# Altium integrated library BB Converter Data Acquisition System.IntLib: 55 symbols (part 2 of 2)
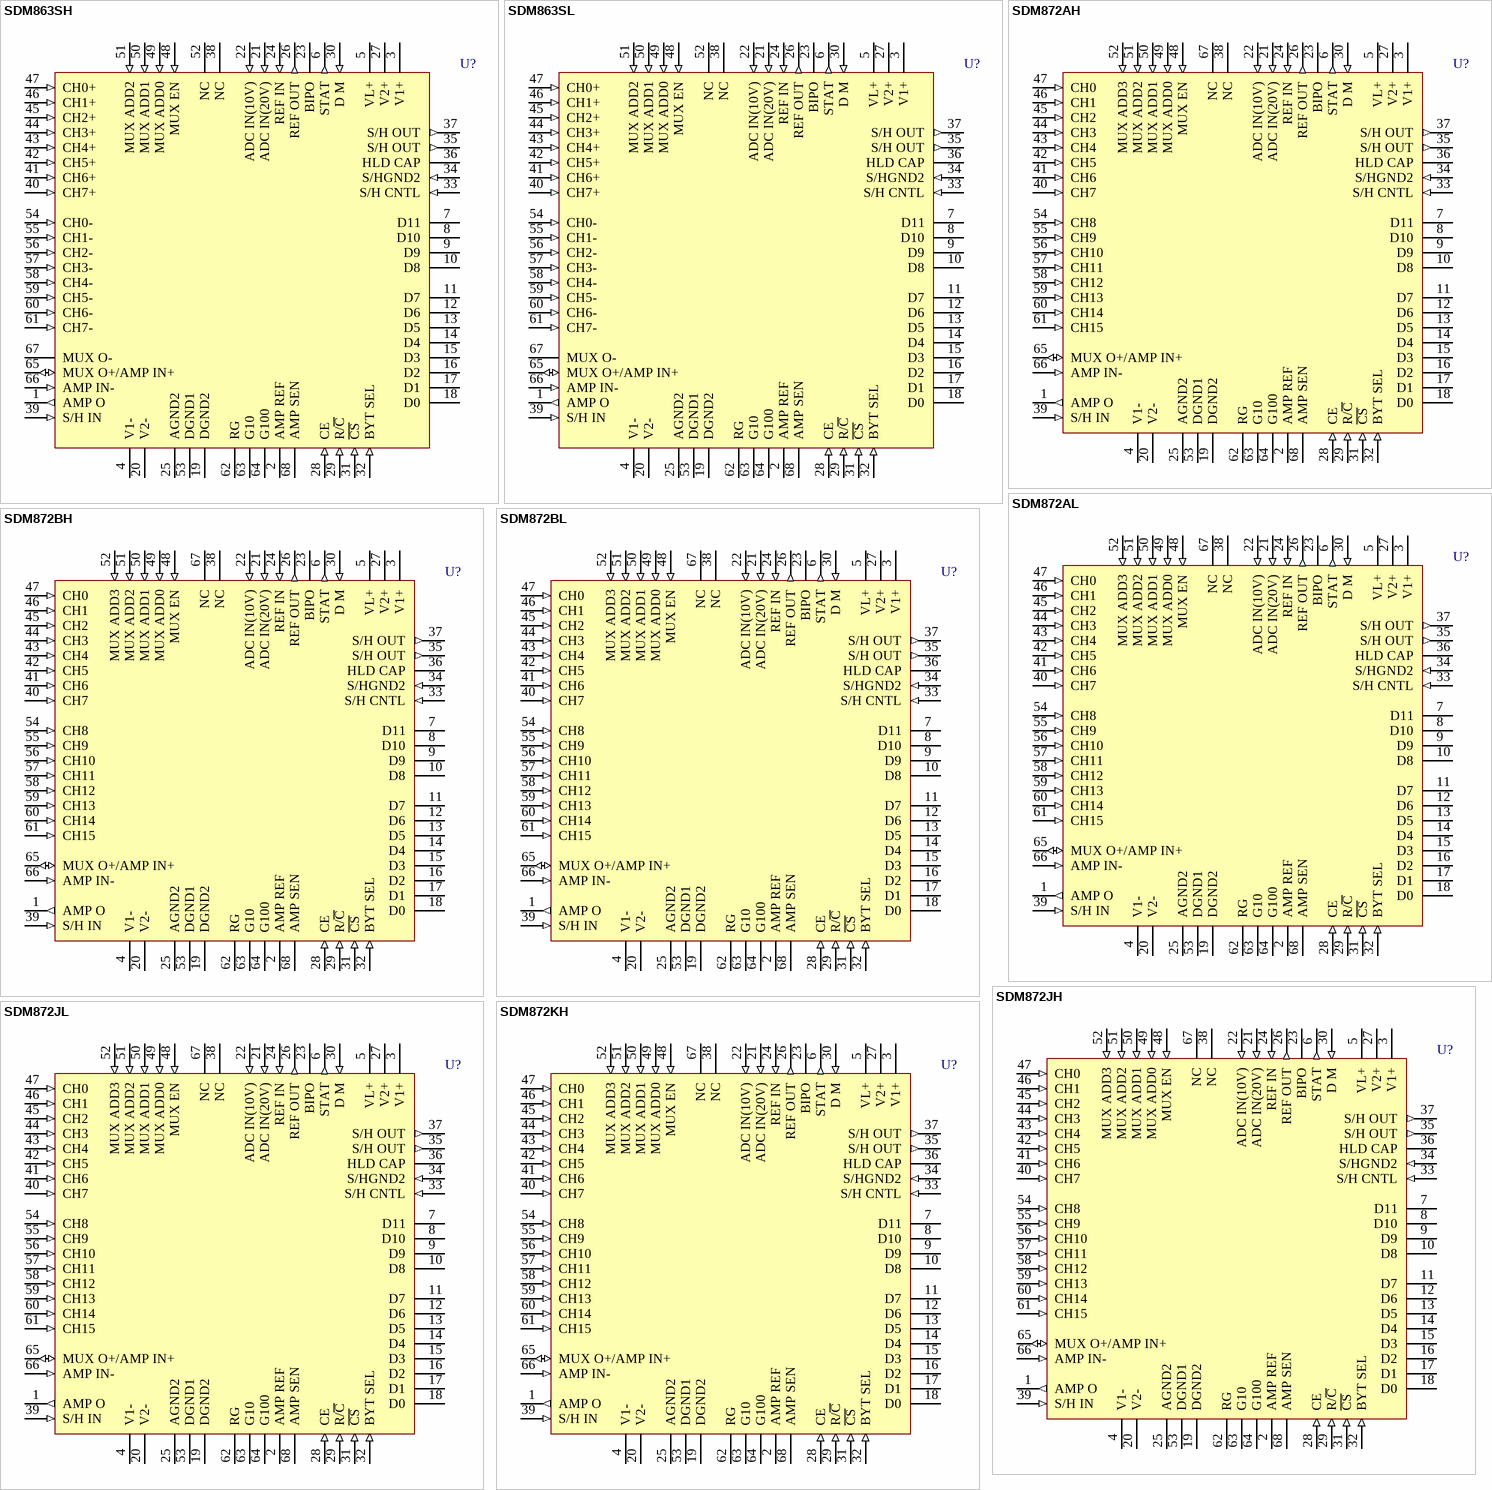
[diagram p7: symbols SDM863SH to SDM872KH]

## SDM863SL
designator U?
8 Differential Input 12-Bit Data Acquisition Systems; Note: Pin 38 is No internal Connection (NC) pin.; Published: 8-Jun-2000; LatestRevisionDate: 06-Jun-2005; LatestRevisionNote: Stylized 3D Model Added.; DatasheetVersion: 1996~1997; PackageReference: ZZ907; Publisher: Altium Limited; PackageDescription: 68-Pin Pin Grid Array 2.54 mm Pitch; ComponentLink1Description: Manufacturer Link; ComponentLink1URL: http://www.ti.com/
footprint ZZ907 (PGA, 68-Leads, Body 28x28mm, Pitch 2.54mm)
3D model SDM863S-PGA68 (68-Pin Pin Grid Array 2.54 mm Pitch)
pins: 1 AMP O (out), 2 AMP REF, 3 V1+ (power), 4 V1- (power), 5 VL+ (power), 6 STAT (out), 7 D11 (hiz), 8 D10 (hiz), 9 D9 (hiz), 10 D8 (hiz), 11 D7 (hiz), 12 D6 (hiz), 13 D5 (hiz), 14 D4 (hiz), 15 D3 (hiz), 16 D2 (hiz), 17 D1 (hiz), 18 D0 (hiz), 19 DGND2 (power), 20 V2- (power), 21 ADC IN(20V) (in), 22 ADC IN(10V) (in), 23 BIPO, 24 REF IN (in), 25 AGND2 (power), 26 REF OUT (out), 27 V2+ (power), 28 CE (in), 29 R/~{C} (in), 30 D M (in), 31 ~{CS} (in), 32 BYT SEL (in), 33 S/H CNTL (in), 34 S/HGND2 (in), 35 S/H OUT (out), 36 HLD CAP, 37 S/H OUT (out), 38 NC, 39 S/H IN (in), 40 CH7+ (in), 41 CH6+ (in), 42 CH5+ (in), 43 CH4+ (in), 44 CH3+ (in), 45 CH2+ (in), 46 CH1+ (in), 47 CH0+ (in), 48 MUX EN (in), 49 MUX ADD0 (in), 50 MUX ADD1 (in), 51 MUX ADD2 (in), 52 NC, 53 DGND1 (power), 54 CH0- (in), 55 CH1- (in), 56 CH2- (in), 57 CH3- (in), 58 CH4- (in), 59 CH5- (in), 60 CH6- (in), 61 CH7- (in), 62 RG, 63 G10, 64 G100, 65 MUX O+/AMP IN+ (io), 66 AMP IN- (in), 67 MUX O-, 68 AMP SEN

## SDM872AH
designator U?
16 Single Ended 12-Bit Data Acquisition Systems; Note: Pin 38 is No internal Connection (NC) pin.; Published: 8-Jun-2000; LatestRevisionDate: 06-Jun-2005; LatestRevisionNote: Stylized 3D Model Added.; DatasheetVersion: 1996~1997; PackageReference: 906; Publisher: Altium Limited; PackageDescription: Leadless Chip Carrier; 68 Terminals; Body 24.3 x 24.3 mm; ComponentLink1Description: Manufacturer Link; ComponentLink1URL: http://www.ti.com/
footprint 906 (Leadless Chip Carrier; 68 Terminals; Body 24.3 x 24.3 mm)
3D model SDM872A-LCC68 (Leadless Chip Carrier; 68 Terminals; Body 24.3 x 24.3 mm)
pins: 1 AMP O (out), 2 AMP REF, 3 V1+ (power), 4 V1- (power), 5 VL+ (power), 6 STAT (out), 7 D11 (hiz), 8 D10 (hiz), 9 D9 (hiz), 10 D8 (hiz), 11 D7 (hiz), 12 D6 (hiz), 13 D5 (hiz), 14 D4 (hiz), 15 D3 (hiz), 16 D2 (hiz), 17 D1 (hiz), 18 D0 (hiz), 19 DGND2 (power), 20 V2- (power), 21 ADC IN(20V) (in), 22 ADC IN(10V) (in), 23 BIPO, 24 REF IN (in), 25 AGND2 (power), 26 REF OUT (out), 27 V2+ (power), 28 CE (in), 29 R/~{C} (in), 30 D M (in), 31 ~{CS} (in), 32 BYT SEL (in), 33 S/H CNTL (in), 34 S/HGND2 (in), 35 S/H OUT (out), 36 HLD CAP, 37 S/H OUT (out), 38 NC, 39 S/H IN (in), 40 CH7 (in), 41 CH6 (in), 42 CH5 (in), 43 CH4 (in), 44 CH3 (in), 45 CH2 (in), 46 CH1 (in), 47 CH0 (in), 48 MUX EN (in), 49 MUX ADD0 (in), 50 MUX ADD1 (in), 51 MUX ADD2 (in), 52 MUX ADD3 (in), 53 DGND1 (power), 54 CH8 (in), 55 CH9 (in), 56 CH10 (in), 57 CH11 (in), 58 CH12 (in), 59 CH13 (in), 60 CH14 (in), 61 CH15 (in), 62 RG, 63 G10, 64 G100, 65 MUX O+/AMP IN+ (io), 66 AMP IN- (in), 67 NC, 68 AMP SEN

## SDM872AL
designator U?
16 Single Ended 12-Bit Data Acquisition Systems; Note: Pin 38 is No internal Connection (NC) pin.; Published: 8-Jun-2000; LatestRevisionDate: 06-Jun-2005; LatestRevisionNote: Stylized 3D Model Added.; DatasheetVersion: 1996~1997; PackageReference: ZZ907; Publisher: Altium Limited; PackageDescription: 68-Pin Pin Grid Array 2.54 mm Pitch; ComponentLink1Description: Manufacturer Link; ComponentLink1URL: http://www.ti.com/
footprint ZZ907 (PGA, 68-Leads, Body 28x28mm, Pitch 2.54mm)
3D model SDM872A-PGA68 (68-Pin Pin Grid Array 2.54 mm Pitch)
pins: 1 AMP O (out), 2 AMP REF, 3 V1+ (power), 4 V1- (power), 5 VL+ (power), 6 STAT (out), 7 D11 (hiz), 8 D10 (hiz), 9 D9 (hiz), 10 D8 (hiz), 11 D7 (hiz), 12 D6 (hiz), 13 D5 (hiz), 14 D4 (hiz), 15 D3 (hiz), 16 D2 (hiz), 17 D1 (hiz), 18 D0 (hiz), 19 DGND2 (power), 20 V2- (power), 21 ADC IN(20V) (in), 22 ADC IN(10V) (in), 23 BIPO, 24 REF IN (in), 25 AGND2 (power), 26 REF OUT (out), 27 V2+ (power), 28 CE (in), 29 R/~{C} (in), 30 D M (in), 31 ~{CS} (in), 32 BYT SEL (in), 33 S/H CNTL (in), 34 S/HGND2 (in), 35 S/H OUT (out), 36 HLD CAP, 37 S/H OUT (out), 38 NC, 39 S/H IN (in), 40 CH7 (in), 41 CH6 (in), 42 CH5 (in), 43 CH4 (in), 44 CH3 (in), 45 CH2 (in), 46 CH1 (in), 47 CH0 (in), 48 MUX EN (in), 49 MUX ADD0 (in), 50 MUX ADD1 (in), 51 MUX ADD2 (in), 52 MUX ADD3 (in), 53 DGND1 (power), 54 CH8 (in), 55 CH9 (in), 56 CH10 (in), 57 CH11 (in), 58 CH12 (in), 59 CH13 (in), 60 CH14 (in), 61 CH15 (in), 62 RG, 63 G10, 64 G100, 65 MUX O+/AMP IN+ (io), 66 AMP IN- (in), 67 NC, 68 AMP SEN

## SDM872BH
designator U?
16 Single Ended 12-Bit Data Acquisition Systems; Note: Pin 38 is No internal Connection (NC) pin.; Published: 8-Jun-2000; LatestRevisionDate: 06-Jun-2005; LatestRevisionNote: Stylized 3D Model Added.; DatasheetVersion: 1996~1997; PackageReference: 906; Publisher: Altium Limited; PackageDescription: Leadless Chip Carrier; 68 Terminals; Body 24.3 x 24.3 mm; ComponentLink1Description: Manufacturer Link; ComponentLink1URL: http://www.ti.com/
footprint 906 (Leadless Chip Carrier; 68 Terminals; Body 24.3 x 24.3 mm)
3D model SDM872B-LCC68 (Leadless Chip Carrier; 68 Terminals; Body 24.3 x 24.3 mm)
pins: 1 AMP O (out), 2 AMP REF, 3 V1+ (power), 4 V1- (power), 5 VL+ (power), 6 STAT (out), 7 D11 (hiz), 8 D10 (hiz), 9 D9 (hiz), 10 D8 (hiz), 11 D7 (hiz), 12 D6 (hiz), 13 D5 (hiz), 14 D4 (hiz), 15 D3 (hiz), 16 D2 (hiz), 17 D1 (hiz), 18 D0 (hiz), 19 DGND2 (power), 20 V2- (power), 21 ADC IN(20V) (in), 22 ADC IN(10V) (in), 23 BIPO, 24 REF IN (in), 25 AGND2 (power), 26 REF OUT (out), 27 V2+ (power), 28 CE (in), 29 R/~{C} (in), 30 D M (in), 31 ~{CS} (in), 32 BYT SEL (in), 33 S/H CNTL (in), 34 S/HGND2 (in), 35 S/H OUT (out), 36 HLD CAP, 37 S/H OUT (out), 38 NC, 39 S/H IN (in), 40 CH7 (in), 41 CH6 (in), 42 CH5 (in), 43 CH4 (in), 44 CH3 (in), 45 CH2 (in), 46 CH1 (in), 47 CH0 (in), 48 MUX EN (in), 49 MUX ADD0 (in), 50 MUX ADD1 (in), 51 MUX ADD2 (in), 52 MUX ADD3 (in), 53 DGND1 (power), 54 CH8 (in), 55 CH9 (in), 56 CH10 (in), 57 CH11 (in), 58 CH12 (in), 59 CH13 (in), 60 CH14 (in), 61 CH15 (in), 62 RG, 63 G10, 64 G100, 65 MUX O+/AMP IN+ (io), 66 AMP IN- (in), 67 NC, 68 AMP SEN

## SDM872BL
designator U?
16 Single Ended 12-Bit Data Acquisition Systems; Note: Pin 38 is No internal Connection (NC) pin.; Published: 8-Jun-2000; LatestRevisionDate: 06-Jun-2005; LatestRevisionNote: Stylized 3D Model Added.; DatasheetVersion: 1996~1997; PackageReference: ZZ907; Publisher: Altium Limited; PackageDescription: 68-Pin Pin Grid Array 2.54 mm Pitch; ComponentLink1Description: Manufacturer Link; ComponentLink1URL: http://www.ti.com/
footprint ZZ907 (PGA, 68-Leads, Body 28x28mm, Pitch 2.54mm)
3D model SDM872B-PGA68 (68-Pin Pin Grid Array 2.54 mm Pitch)
pins: 1 AMP O (out), 2 AMP REF, 3 V1+ (power), 4 V1- (power), 5 VL+ (power), 6 STAT (out), 7 D11 (hiz), 8 D10 (hiz), 9 D9 (hiz), 10 D8 (hiz), 11 D7 (hiz), 12 D6 (hiz), 13 D5 (hiz), 14 D4 (hiz), 15 D3 (hiz), 16 D2 (hiz), 17 D1 (hiz), 18 D0 (hiz), 19 DGND2 (power), 20 V2- (power), 21 ADC IN(20V) (in), 22 ADC IN(10V) (in), 23 BIPO, 24 REF IN (in), 25 AGND2 (power), 26 REF OUT (out), 27 V2+ (power), 28 CE (in), 29 R/~{C} (in), 30 D M (in), 31 ~{CS} (in), 32 BYT SEL (in), 33 S/H CNTL (in), 34 S/HGND2 (in), 35 S/H OUT (out), 36 HLD CAP, 37 S/H OUT (out), 38 NC, 39 S/H IN (in), 40 CH7 (in), 41 CH6 (in), 42 CH5 (in), 43 CH4 (in), 44 CH3 (in), 45 CH2 (in), 46 CH1 (in), 47 CH0 (in), 48 MUX EN (in), 49 MUX ADD0 (in), 50 MUX ADD1 (in), 51 MUX ADD2 (in), 52 MUX ADD3 (in), 53 DGND1 (power), 54 CH8 (in), 55 CH9 (in), 56 CH10 (in), 57 CH11 (in), 58 CH12 (in), 59 CH13 (in), 60 CH14 (in), 61 CH15 (in), 62 RG, 63 G10, 64 G100, 65 MUX O+/AMP IN+ (io), 66 AMP IN- (in), 67 NC, 68 AMP SEN

## SDM872JH
designator U?
16 Single Ended 12-Bit Data Acquisition Systems; Note: Pin 38 is No internal Connection (NC) pin.; Published: 8-Jun-2000; LatestRevisionDate: 06-Jun-2005; LatestRevisionNote: Stylized 3D Model Added.; DatasheetVersion: 1996~1997; PackageReference: 906; Publisher: Altium Limited; PackageDescription: Leadless Chip Carrier; 68 Terminals; Body 24.3 x 24.3 mm; ComponentLink1Description: Manufacturer Link; ComponentLink1URL: http://www.ti.com/
footprint 906 (Leadless Chip Carrier; 68 Terminals; Body 24.3 x 24.3 mm)
3D model SDM872J-LCC68 (Leadless Chip Carrier; 68 Terminals; Body 24.3 x 24.3 mm)
pins: 1 AMP O (out), 2 AMP REF, 3 V1+ (power), 4 V1- (power), 5 VL+ (power), 6 STAT (out), 7 D11 (hiz), 8 D10 (hiz), 9 D9 (hiz), 10 D8 (hiz), 11 D7 (hiz), 12 D6 (hiz), 13 D5 (hiz), 14 D4 (hiz), 15 D3 (hiz), 16 D2 (hiz), 17 D1 (hiz), 18 D0 (hiz), 19 DGND2 (power), 20 V2- (power), 21 ADC IN(20V) (in), 22 ADC IN(10V) (in), 23 BIPO, 24 REF IN (in), 25 AGND2 (power), 26 REF OUT (out), 27 V2+ (power), 28 CE (in), 29 R/~{C} (in), 30 D M (in), 31 ~{CS} (in), 32 BYT SEL (in), 33 S/H CNTL (in), 34 S/HGND2 (in), 35 S/H OUT (out), 36 HLD CAP, 37 S/H OUT (out), 38 NC, 39 S/H IN (in), 40 CH7 (in), 41 CH6 (in), 42 CH5 (in), 43 CH4 (in), 44 CH3 (in), 45 CH2 (in), 46 CH1 (in), 47 CH0 (in), 48 MUX EN (in), 49 MUX ADD0 (in), 50 MUX ADD1 (in), 51 MUX ADD2 (in), 52 MUX ADD3 (in), 53 DGND1 (power), 54 CH8 (in), 55 CH9 (in), 56 CH10 (in), 57 CH11 (in), 58 CH12 (in), 59 CH13 (in), 60 CH14 (in), 61 CH15 (in), 62 RG, 63 G10, 64 G100, 65 MUX O+/AMP IN+ (io), 66 AMP IN- (in), 67 NC, 68 AMP SEN

## SDM872JL
designator U?
16 Single Ended 12-Bit Data Acquisition Systems; Note: Pin 38 is No internal Connection (NC) pin.; Published: 8-Jun-2000; LatestRevisionDate: 06-Jun-2005; LatestRevisionNote: Stylized 3D Model Added.; DatasheetVersion: 1996~1997; PackageReference: ZZ907; Publisher: Altium Limited; PackageDescription: 68-Pin Pin Grid Array 2.54 mm Pitch; ComponentLink1Description: Manufacturer Link; ComponentLink1URL: http://www.ti.com/
footprint ZZ907 (PGA, 68-Leads, Body 28x28mm, Pitch 2.54mm)
3D model SDM872J-PGA68 (68-Pin Pin Grid Array 2.54 mm Pitch)
pins: 1 AMP O (out), 2 AMP REF, 3 V1+ (power), 4 V1- (power), 5 VL+ (power), 6 STAT (out), 7 D11 (hiz), 8 D10 (hiz), 9 D9 (hiz), 10 D8 (hiz), 11 D7 (hiz), 12 D6 (hiz), 13 D5 (hiz), 14 D4 (hiz), 15 D3 (hiz), 16 D2 (hiz), 17 D1 (hiz), 18 D0 (hiz), 19 DGND2 (power), 20 V2- (power), 21 ADC IN(20V) (in), 22 ADC IN(10V) (in), 23 BIPO, 24 REF IN (in), 25 AGND2 (power), 26 REF OUT (out), 27 V2+ (power), 28 CE (in), 29 R/~{C} (in), 30 D M (in), 31 ~{CS} (in), 32 BYT SEL (in), 33 S/H CNTL (in), 34 S/HGND2 (in), 35 S/H OUT (out), 36 HLD CAP, 37 S/H OUT (out), 38 NC, 39 S/H IN (in), 40 CH7 (in), 41 CH6 (in), 42 CH5 (in), 43 CH4 (in), 44 CH3 (in), 45 CH2 (in), 46 CH1 (in), 47 CH0 (in), 48 MUX EN (in), 49 MUX ADD0 (in), 50 MUX ADD1 (in), 51 MUX ADD2 (in), 52 MUX ADD3 (in), 53 DGND1 (power), 54 CH8 (in), 55 CH9 (in), 56 CH10 (in), 57 CH11 (in), 58 CH12 (in), 59 CH13 (in), 60 CH14 (in), 61 CH15 (in), 62 RG, 63 G10, 64 G100, 65 MUX O+/AMP IN+ (io), 66 AMP IN- (in), 67 NC, 68 AMP SEN

## SDM872KH
designator U?
16 Single Ended 12-Bit Data Acquisition Systems; Note: Pin 38 is No internal Connection (NC) pin.; Published: 8-Jun-2000; LatestRevisionDate: 06-Jun-2005; LatestRevisionNote: Stylized 3D Model Added.; DatasheetVersion: 1996~1997; PackageReference: 906; Publisher: Altium Limited; PackageDescription: Leadless Chip Carrier; 68 Terminals; Body 24.3 x 24.3 mm; ComponentLink1Description: Manufacturer Link; ComponentLink1URL: http://www.ti.com/
footprint 906 (Leadless Chip Carrier; 68 Terminals; Body 24.3 x 24.3 mm)
3D model SDM872K-LCC68 (Leadless Chip Carrier; 68 Terminals; Body 24.3 x 24.3 mm)
pins: 1 AMP O (out), 2 AMP REF, 3 V1+ (power), 4 V1- (power), 5 VL+ (power), 6 STAT (out), 7 D11 (hiz), 8 D10 (hiz), 9 D9 (hiz), 10 D8 (hiz), 11 D7 (hiz), 12 D6 (hiz), 13 D5 (hiz), 14 D4 (hiz), 15 D3 (hiz), 16 D2 (hiz), 17 D1 (hiz), 18 D0 (hiz), 19 DGND2 (power), 20 V2- (power), 21 ADC IN(20V) (in), 22 ADC IN(10V) (in), 23 BIPO, 24 REF IN (in), 25 AGND2 (power), 26 REF OUT (out), 27 V2+ (power), 28 CE (in), 29 R/~{C} (in), 30 D M (in), 31 ~{CS} (in), 32 BYT SEL (in), 33 S/H CNTL (in), 34 S/HGND2 (in), 35 S/H OUT (out), 36 HLD CAP, 37 S/H OUT (out), 38 NC, 39 S/H IN (in), 40 CH7 (in), 41 CH6 (in), 42 CH5 (in), 43 CH4 (in), 44 CH3 (in), 45 CH2 (in), 46 CH1 (in), 47 CH0 (in), 48 MUX EN (in), 49 MUX ADD0 (in), 50 MUX ADD1 (in), 51 MUX ADD2 (in), 52 MUX ADD3 (in), 53 DGND1 (power), 54 CH8 (in), 55 CH9 (in), 56 CH10 (in), 57 CH11 (in), 58 CH12 (in), 59 CH13 (in), 60 CH14 (in), 61 CH15 (in), 62 RG, 63 G10, 64 G100, 65 MUX O+/AMP IN+ (io), 66 AMP IN- (in), 67 NC, 68 AMP SEN

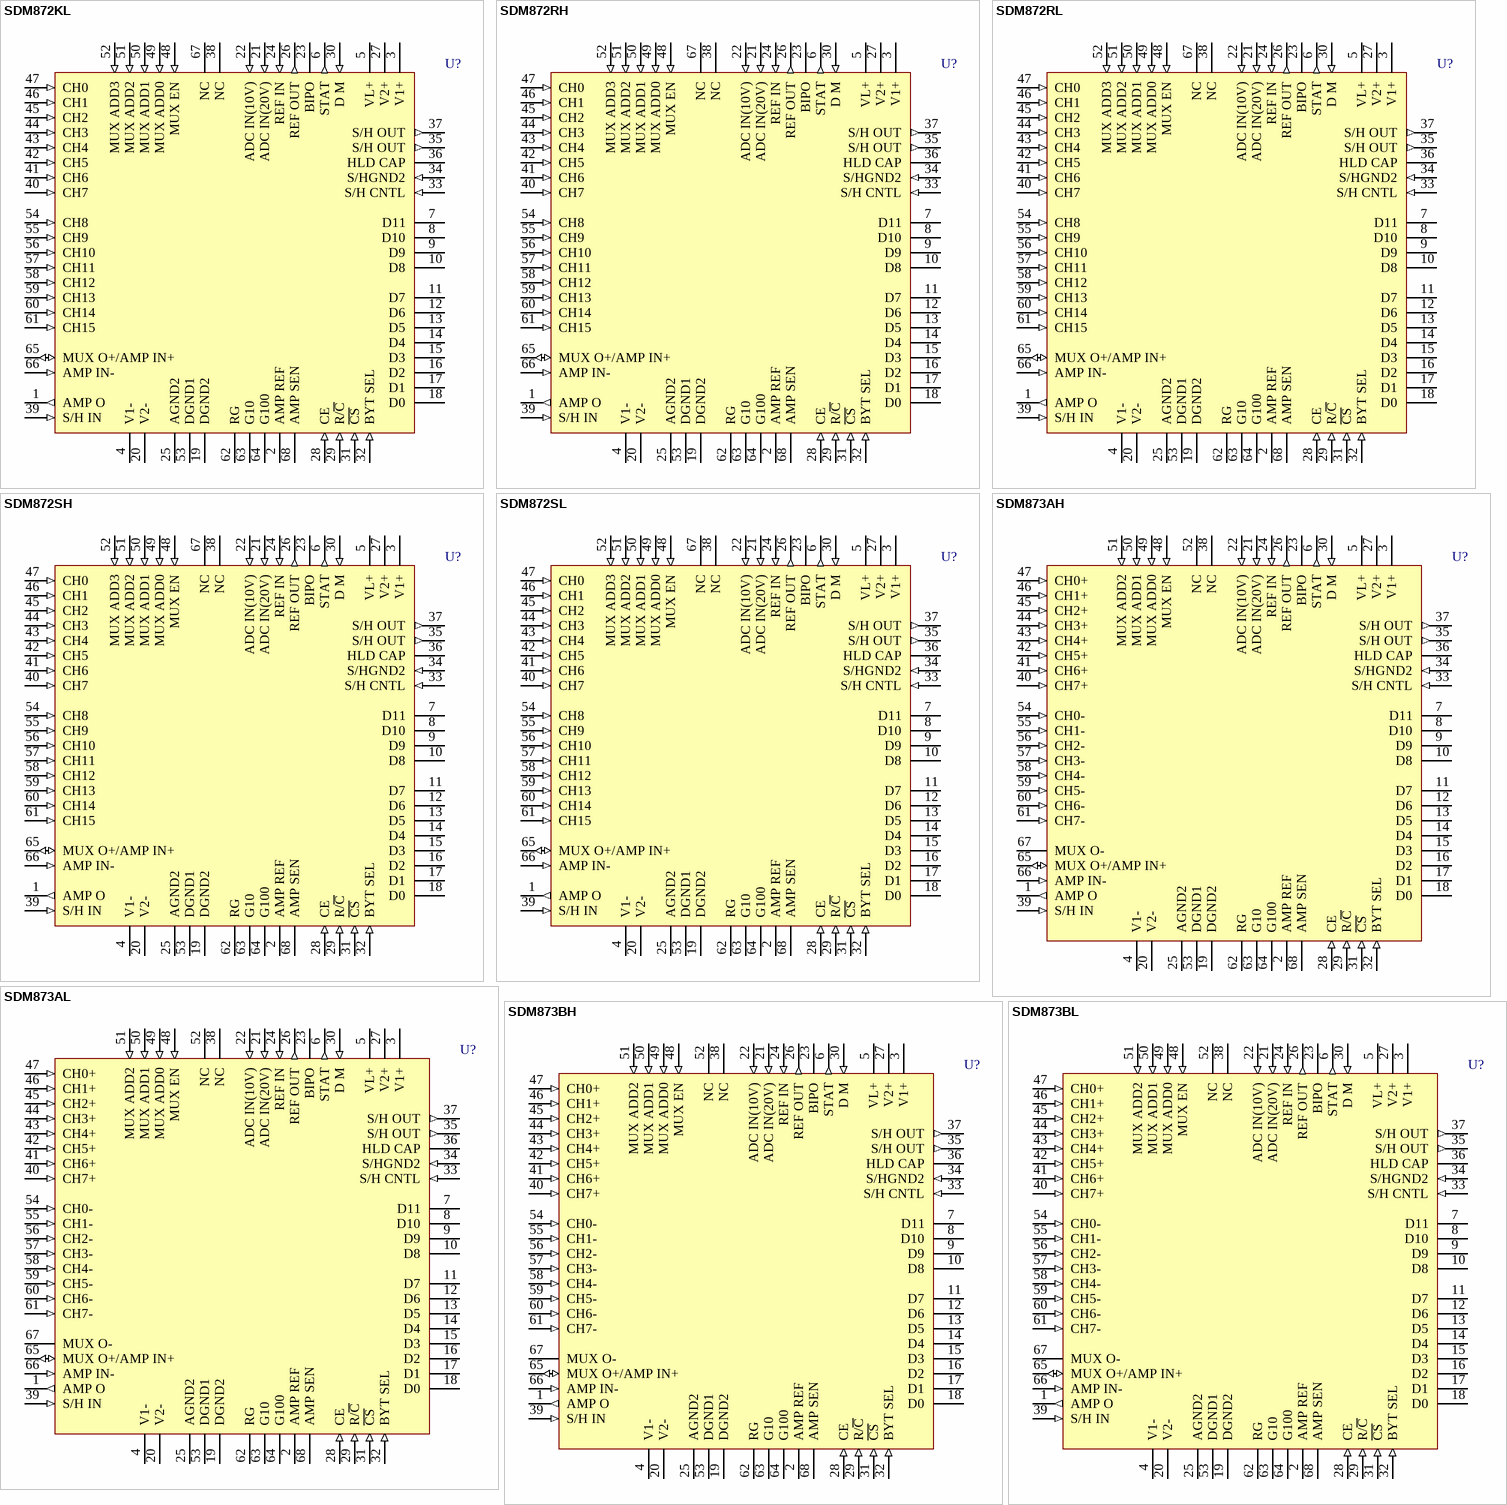
[diagram p5: symbols SDM872KL to SDM873BL]

## SDM872KL
designator U?
16 Single Ended 12-Bit Data Acquisition Systems; Note: Pin 38 is No internal Connection (NC) pin.; Published: 8-Jun-2000; LatestRevisionDate: 06-Jun-2005; LatestRevisionNote: Stylized 3D Model Added.; DatasheetVersion: 1996~1997; PackageReference: ZZ907; Publisher: Altium Limited; PackageDescription: 68-Pin Pin Grid Array 2.54 mm Pitch; ComponentLink1Description: Manufacturer Link; ComponentLink1URL: http://www.ti.com/
footprint ZZ907 (PGA, 68-Leads, Body 28x28mm, Pitch 2.54mm)
3D model SDM872K-PGA68 (68-Pin Pin Grid Array 2.54 mm Pitch)
pins: 1 AMP O (out), 2 AMP REF, 3 V1+ (power), 4 V1- (power), 5 VL+ (power), 6 STAT (out), 7 D11 (hiz), 8 D10 (hiz), 9 D9 (hiz), 10 D8 (hiz), 11 D7 (hiz), 12 D6 (hiz), 13 D5 (hiz), 14 D4 (hiz), 15 D3 (hiz), 16 D2 (hiz), 17 D1 (hiz), 18 D0 (hiz), 19 DGND2 (power), 20 V2- (power), 21 ADC IN(20V) (in), 22 ADC IN(10V) (in), 23 BIPO, 24 REF IN (in), 25 AGND2 (power), 26 REF OUT (out), 27 V2+ (power), 28 CE (in), 29 R/~{C} (in), 30 D M (in), 31 ~{CS} (in), 32 BYT SEL (in), 33 S/H CNTL (in), 34 S/HGND2 (in), 35 S/H OUT (out), 36 HLD CAP, 37 S/H OUT (out), 38 NC, 39 S/H IN (in), 40 CH7 (in), 41 CH6 (in), 42 CH5 (in), 43 CH4 (in), 44 CH3 (in), 45 CH2 (in), 46 CH1 (in), 47 CH0 (in), 48 MUX EN (in), 49 MUX ADD0 (in), 50 MUX ADD1 (in), 51 MUX ADD2 (in), 52 MUX ADD3 (in), 53 DGND1 (power), 54 CH8 (in), 55 CH9 (in), 56 CH10 (in), 57 CH11 (in), 58 CH12 (in), 59 CH13 (in), 60 CH14 (in), 61 CH15 (in), 62 RG, 63 G10, 64 G100, 65 MUX O+/AMP IN+ (io), 66 AMP IN- (in), 67 NC, 68 AMP SEN

## SDM872RH
designator U?
16 Single Ended 12-Bit Data Acquisition Systems; Note: Pin 38 is No internal Connection (NC) pin.; Published: 8-Jun-2000; LatestRevisionDate: 06-Jun-2005; LatestRevisionNote: Stylized 3D Model Added.; DatasheetVersion: 1996~1997; PackageReference: 906; Publisher: Altium Limited; PackageDescription: Leadless Chip Carrier; 68 Terminals; Body 24.3 x 24.3 mm; ComponentLink1Description: Manufacturer Link; ComponentLink1URL: http://www.ti.com/
footprint 906 (Leadless Chip Carrier; 68 Terminals; Body 24.3 x 24.3 mm)
3D model SDM872R-LCC68 (Leadless Chip Carrier; 68 Terminals; Body 24.3 x 24.3 mm)
pins: 1 AMP O (out), 2 AMP REF, 3 V1+ (power), 4 V1- (power), 5 VL+ (power), 6 STAT (out), 7 D11 (hiz), 8 D10 (hiz), 9 D9 (hiz), 10 D8 (hiz), 11 D7 (hiz), 12 D6 (hiz), 13 D5 (hiz), 14 D4 (hiz), 15 D3 (hiz), 16 D2 (hiz), 17 D1 (hiz), 18 D0 (hiz), 19 DGND2 (power), 20 V2- (power), 21 ADC IN(20V) (in), 22 ADC IN(10V) (in), 23 BIPO, 24 REF IN (in), 25 AGND2 (power), 26 REF OUT (out), 27 V2+ (power), 28 CE (in), 29 R/~{C} (in), 30 D M (in), 31 ~{CS} (in), 32 BYT SEL (in), 33 S/H CNTL (in), 34 S/HGND2 (in), 35 S/H OUT (out), 36 HLD CAP, 37 S/H OUT (out), 38 NC, 39 S/H IN (in), 40 CH7 (in), 41 CH6 (in), 42 CH5 (in), 43 CH4 (in), 44 CH3 (in), 45 CH2 (in), 46 CH1 (in), 47 CH0 (in), 48 MUX EN (in), 49 MUX ADD0 (in), 50 MUX ADD1 (in), 51 MUX ADD2 (in), 52 MUX ADD3 (in), 53 DGND1 (power), 54 CH8 (in), 55 CH9 (in), 56 CH10 (in), 57 CH11 (in), 58 CH12 (in), 59 CH13 (in), 60 CH14 (in), 61 CH15 (in), 62 RG, 63 G10, 64 G100, 65 MUX O+/AMP IN+ (io), 66 AMP IN- (in), 67 NC, 68 AMP SEN

## SDM872RL
designator U?
16 Single Ended 12-Bit Data Acquisition Systems; Note: Pin 38 is No internal Connection (NC) pin.; Published: 8-Jun-2000; LatestRevisionDate: 06-Jun-2005; LatestRevisionNote: Stylized 3D Model Added.; DatasheetVersion: 1996~1997; PackageReference: ZZ907; Publisher: Altium Limited; PackageDescription: 68-Pin Pin Grid Array 2.54 mm Pitch; ComponentLink1Description: Manufacturer Link; ComponentLink1URL: http://www.ti.com/
footprint ZZ907 (PGA, 68-Leads, Body 28x28mm, Pitch 2.54mm)
3D model SDM872R-PGA68 (68-Pin Pin Grid Array 2.54 mm Pitch)
pins: 1 AMP O (out), 2 AMP REF, 3 V1+ (power), 4 V1- (power), 5 VL+ (power), 6 STAT (out), 7 D11 (hiz), 8 D10 (hiz), 9 D9 (hiz), 10 D8 (hiz), 11 D7 (hiz), 12 D6 (hiz), 13 D5 (hiz), 14 D4 (hiz), 15 D3 (hiz), 16 D2 (hiz), 17 D1 (hiz), 18 D0 (hiz), 19 DGND2 (power), 20 V2- (power), 21 ADC IN(20V) (in), 22 ADC IN(10V) (in), 23 BIPO, 24 REF IN (in), 25 AGND2 (power), 26 REF OUT (out), 27 V2+ (power), 28 CE (in), 29 R/~{C} (in), 30 D M (in), 31 ~{CS} (in), 32 BYT SEL (in), 33 S/H CNTL (in), 34 S/HGND2 (in), 35 S/H OUT (out), 36 HLD CAP, 37 S/H OUT (out), 38 NC, 39 S/H IN (in), 40 CH7 (in), 41 CH6 (in), 42 CH5 (in), 43 CH4 (in), 44 CH3 (in), 45 CH2 (in), 46 CH1 (in), 47 CH0 (in), 48 MUX EN (in), 49 MUX ADD0 (in), 50 MUX ADD1 (in), 51 MUX ADD2 (in), 52 MUX ADD3 (in), 53 DGND1 (power), 54 CH8 (in), 55 CH9 (in), 56 CH10 (in), 57 CH11 (in), 58 CH12 (in), 59 CH13 (in), 60 CH14 (in), 61 CH15 (in), 62 RG, 63 G10, 64 G100, 65 MUX O+/AMP IN+ (io), 66 AMP IN- (in), 67 NC, 68 AMP SEN

## SDM872SH
designator U?
16 Single Ended 12-Bit Data Acquisition Systems; Note: Pin 38 is No internal Connection (NC) pin.; Published: 8-Jun-2000; LatestRevisionDate: 06-Jun-2005; LatestRevisionNote: Stylized 3D Model Added.; DatasheetVersion: 1996~1997; PackageReference: 906; Publisher: Altium Limited; PackageDescription: Leadless Chip Carrier; 68 Terminals; Body 24.3 x 24.3 mm; ComponentLink1Description: Manufacturer Link; ComponentLink1URL: http://www.ti.com/
footprint 906 (Leadless Chip Carrier; 68 Terminals; Body 24.3 x 24.3 mm)
3D model SDM872S-LCC68 (Leadless Chip Carrier; 68 Terminals; Body 24.3 x 24.3 mm)
pins: 1 AMP O (out), 2 AMP REF, 3 V1+ (power), 4 V1- (power), 5 VL+ (power), 6 STAT (out), 7 D11 (hiz), 8 D10 (hiz), 9 D9 (hiz), 10 D8 (hiz), 11 D7 (hiz), 12 D6 (hiz), 13 D5 (hiz), 14 D4 (hiz), 15 D3 (hiz), 16 D2 (hiz), 17 D1 (hiz), 18 D0 (hiz), 19 DGND2 (power), 20 V2- (power), 21 ADC IN(20V) (in), 22 ADC IN(10V) (in), 23 BIPO, 24 REF IN (in), 25 AGND2 (power), 26 REF OUT (out), 27 V2+ (power), 28 CE (in), 29 R/~{C} (in), 30 D M (in), 31 ~{CS} (in), 32 BYT SEL (in), 33 S/H CNTL (in), 34 S/HGND2 (in), 35 S/H OUT (out), 36 HLD CAP, 37 S/H OUT (out), 38 NC, 39 S/H IN (in), 40 CH7 (in), 41 CH6 (in), 42 CH5 (in), 43 CH4 (in), 44 CH3 (in), 45 CH2 (in), 46 CH1 (in), 47 CH0 (in), 48 MUX EN (in), 49 MUX ADD0 (in), 50 MUX ADD1 (in), 51 MUX ADD2 (in), 52 MUX ADD3 (in), 53 DGND1 (power), 54 CH8 (in), 55 CH9 (in), 56 CH10 (in), 57 CH11 (in), 58 CH12 (in), 59 CH13 (in), 60 CH14 (in), 61 CH15 (in), 62 RG, 63 G10, 64 G100, 65 MUX O+/AMP IN+ (io), 66 AMP IN- (in), 67 NC, 68 AMP SEN

## SDM872SL
designator U?
16 Single Ended 12-Bit Data Acquisition Systems; Note: Pin 38 is No internal Connection (NC) pin.; Published: 8-Jun-2000; LatestRevisionDate: 06-Jun-2005; LatestRevisionNote: Stylized 3D Model Added.; DatasheetVersion: 1996~1997; PackageReference: ZZ907; Publisher: Altium Limited; PackageDescription: 68-Pin Pin Grid Array 2.54 mm Pitch; ComponentLink1Description: Manufacturer Link; ComponentLink1URL: http://www.ti.com/
footprint ZZ907 (PGA, 68-Leads, Body 28x28mm, Pitch 2.54mm)
3D model SDM872S-PGA68 (68-Pin Pin Grid Array 2.54 mm Pitch)
pins: 1 AMP O (out), 2 AMP REF, 3 V1+ (power), 4 V1- (power), 5 VL+ (power), 6 STAT (out), 7 D11 (hiz), 8 D10 (hiz), 9 D9 (hiz), 10 D8 (hiz), 11 D7 (hiz), 12 D6 (hiz), 13 D5 (hiz), 14 D4 (hiz), 15 D3 (hiz), 16 D2 (hiz), 17 D1 (hiz), 18 D0 (hiz), 19 DGND2 (power), 20 V2- (power), 21 ADC IN(20V) (in), 22 ADC IN(10V) (in), 23 BIPO, 24 REF IN (in), 25 AGND2 (power), 26 REF OUT (out), 27 V2+ (power), 28 CE (in), 29 R/~{C} (in), 30 D M (in), 31 ~{CS} (in), 32 BYT SEL (in), 33 S/H CNTL (in), 34 S/HGND2 (in), 35 S/H OUT (out), 36 HLD CAP, 37 S/H OUT (out), 38 NC, 39 S/H IN (in), 40 CH7 (in), 41 CH6 (in), 42 CH5 (in), 43 CH4 (in), 44 CH3 (in), 45 CH2 (in), 46 CH1 (in), 47 CH0 (in), 48 MUX EN (in), 49 MUX ADD0 (in), 50 MUX ADD1 (in), 51 MUX ADD2 (in), 52 MUX ADD3 (in), 53 DGND1 (power), 54 CH8 (in), 55 CH9 (in), 56 CH10 (in), 57 CH11 (in), 58 CH12 (in), 59 CH13 (in), 60 CH14 (in), 61 CH15 (in), 62 RG, 63 G10, 64 G100, 65 MUX O+/AMP IN+ (io), 66 AMP IN- (in), 67 NC, 68 AMP SEN

## SDM873AH
designator U?
8 Differential Input 12-Bit Data Acquisition Systems; Note: Pin 38 is No internal Connection (NC) pin.; Published: 8-Jun-2000; LatestRevisionDate: 06-Jun-2005; LatestRevisionNote: Stylized 3D Model Added.; DatasheetVersion: 1996~1997; PackageReference: 906; Publisher: Altium Limited; PackageDescription: Leadless Chip Carrier; 68 Terminals; Body 24.3 x 24.3 mm; ComponentLink1Description: Manufacturer Link; ComponentLink1URL: http://www.ti.com/
footprint 906 (Leadless Chip Carrier; 68 Terminals; Body 24.3 x 24.3 mm)
3D model SDM873A-LCC68 (Leadless Chip Carrier; 68 Terminals; Body 24.3 x 24.3 mm)
pins: 1 AMP O (out), 2 AMP REF, 3 V1+ (power), 4 V1- (power), 5 VL+ (power), 6 STAT (out), 7 D11 (hiz), 8 D10 (hiz), 9 D9 (hiz), 10 D8 (hiz), 11 D7 (hiz), 12 D6 (hiz), 13 D5 (hiz), 14 D4 (hiz), 15 D3 (hiz), 16 D2 (hiz), 17 D1 (hiz), 18 D0 (hiz), 19 DGND2 (power), 20 V2- (power), 21 ADC IN(20V) (in), 22 ADC IN(10V) (in), 23 BIPO, 24 REF IN (in), 25 AGND2 (power), 26 REF OUT (out), 27 V2+ (power), 28 CE (in), 29 R/~{C} (in), 30 D M (in), 31 ~{CS} (in), 32 BYT SEL (in), 33 S/H CNTL (in), 34 S/HGND2 (in), 35 S/H OUT (out), 36 HLD CAP, 37 S/H OUT (out), 38 NC, 39 S/H IN (in), 40 CH7+ (in), 41 CH6+ (in), 42 CH5+ (in), 43 CH4+ (in), 44 CH3+ (in), 45 CH2+ (in), 46 CH1+ (in), 47 CH0+ (in), 48 MUX EN (in), 49 MUX ADD0 (in), 50 MUX ADD1 (in), 51 MUX ADD2 (in), 52 NC, 53 DGND1 (power), 54 CH0- (in), 55 CH1- (in), 56 CH2- (in), 57 CH3- (in), 58 CH4- (in), 59 CH5- (in), 60 CH6- (in), 61 CH7- (in), 62 RG, 63 G10, 64 G100, 65 MUX O+/AMP IN+ (io), 66 AMP IN- (in), 67 MUX O-, 68 AMP SEN

## SDM873AL
designator U?
8 Differential Input 12-Bit Data Acquisition Systems; Note: Pin 38 is No internal Connection (NC) pin.; Published: 8-Jun-2000; LatestRevisionDate: 06-Jun-2005; LatestRevisionNote: Stylized 3D Model Added.; DatasheetVersion: 1996~1997; PackageReference: ZZ907; Publisher: Altium Limited; PackageDescription: 68-Pin Pin Grid Array 2.54 mm Pitch; ComponentLink1Description: Manufacturer Link; ComponentLink1URL: http://www.ti.com/
footprint ZZ907 (PGA, 68-Leads, Body 28x28mm, Pitch 2.54mm)
3D model SDM873A-PGA68 (68-Pin Pin Grid Array 2.54 mm Pitch)
pins: 1 AMP O (out), 2 AMP REF, 3 V1+ (power), 4 V1- (power), 5 VL+ (power), 6 STAT (out), 7 D11 (hiz), 8 D10 (hiz), 9 D9 (hiz), 10 D8 (hiz), 11 D7 (hiz), 12 D6 (hiz), 13 D5 (hiz), 14 D4 (hiz), 15 D3 (hiz), 16 D2 (hiz), 17 D1 (hiz), 18 D0 (hiz), 19 DGND2 (power), 20 V2- (power), 21 ADC IN(20V) (in), 22 ADC IN(10V) (in), 23 BIPO, 24 REF IN (in), 25 AGND2 (power), 26 REF OUT (out), 27 V2+ (power), 28 CE (in), 29 R/~{C} (in), 30 D M (in), 31 ~{CS} (in), 32 BYT SEL (in), 33 S/H CNTL (in), 34 S/HGND2 (in), 35 S/H OUT (out), 36 HLD CAP, 37 S/H OUT (out), 38 NC, 39 S/H IN (in), 40 CH7+ (in), 41 CH6+ (in), 42 CH5+ (in), 43 CH4+ (in), 44 CH3+ (in), 45 CH2+ (in), 46 CH1+ (in), 47 CH0+ (in), 48 MUX EN (in), 49 MUX ADD0 (in), 50 MUX ADD1 (in), 51 MUX ADD2 (in), 52 NC, 53 DGND1 (power), 54 CH0- (in), 55 CH1- (in), 56 CH2- (in), 57 CH3- (in), 58 CH4- (in), 59 CH5- (in), 60 CH6- (in), 61 CH7- (in), 62 RG, 63 G10, 64 G100, 65 MUX O+/AMP IN+ (io), 66 AMP IN- (in), 67 MUX O-, 68 AMP SEN

## SDM873BH
designator U?
8 Differential Input 12-Bit Data Acquisition Systems; Note: Pin 38 is No internal Connection (NC) pin.; Published: 8-Jun-2000; LatestRevisionDate: 06-Jun-2005; LatestRevisionNote: Stylized 3D Model Added.; DatasheetVersion: 1996~1997; PackageReference: 906; Publisher: Altium Limited; PackageDescription: Leadless Chip Carrier; 68 Terminals; Body 24.3 x 24.3 mm; ComponentLink1Description: Manufacturer Link; ComponentLink1URL: http://www.ti.com/
footprint 906 (Leadless Chip Carrier; 68 Terminals; Body 24.3 x 24.3 mm)
3D model SDM873B-LCC68 (Leadless Chip Carrier; 68 Terminals; Body 24.3 x 24.3 mm)
pins: 1 AMP O (out), 2 AMP REF, 3 V1+ (power), 4 V1- (power), 5 VL+ (power), 6 STAT (out), 7 D11 (hiz), 8 D10 (hiz), 9 D9 (hiz), 10 D8 (hiz), 11 D7 (hiz), 12 D6 (hiz), 13 D5 (hiz), 14 D4 (hiz), 15 D3 (hiz), 16 D2 (hiz), 17 D1 (hiz), 18 D0 (hiz), 19 DGND2 (power), 20 V2- (power), 21 ADC IN(20V) (in), 22 ADC IN(10V) (in), 23 BIPO, 24 REF IN (in), 25 AGND2 (power), 26 REF OUT (out), 27 V2+ (power), 28 CE (in), 29 R/~{C} (in), 30 D M (in), 31 ~{CS} (in), 32 BYT SEL (in), 33 S/H CNTL (in), 34 S/HGND2 (in), 35 S/H OUT (out), 36 HLD CAP, 37 S/H OUT (out), 38 NC, 39 S/H IN (in), 40 CH7+ (in), 41 CH6+ (in), 42 CH5+ (in), 43 CH4+ (in), 44 CH3+ (in), 45 CH2+ (in), 46 CH1+ (in), 47 CH0+ (in), 48 MUX EN (in), 49 MUX ADD0 (in), 50 MUX ADD1 (in), 51 MUX ADD2 (in), 52 NC, 53 DGND1 (power), 54 CH0- (in), 55 CH1- (in), 56 CH2- (in), 57 CH3- (in), 58 CH4- (in), 59 CH5- (in), 60 CH6- (in), 61 CH7- (in), 62 RG, 63 G10, 64 G100, 65 MUX O+/AMP IN+ (io), 66 AMP IN- (in), 67 MUX O-, 68 AMP SEN

## SDM873BL
designator U?
8 Differential Input 12-Bit Data Acquisition Systems; Note: Pin 38 is No internal Connection (NC) pin.; Published: 8-Jun-2000; LatestRevisionDate: 06-Jun-2005; LatestRevisionNote: Stylized 3D Model Added.; DatasheetVersion: 1996~1997; PackageReference: ZZ907; Publisher: Altium Limited; PackageDescription: 68-Pin Pin Grid Array 2.54 mm Pitch; ComponentLink1Description: Manufacturer Link; ComponentLink1URL: http://www.ti.com/
footprint ZZ907 (PGA, 68-Leads, Body 28x28mm, Pitch 2.54mm)
3D model SDM873B-PGA68 (68-Pin Pin Grid Array 2.54 mm Pitch)
pins: 1 AMP O (out), 2 AMP REF, 3 V1+ (power), 4 V1- (power), 5 VL+ (power), 6 STAT (out), 7 D11 (hiz), 8 D10 (hiz), 9 D9 (hiz), 10 D8 (hiz), 11 D7 (hiz), 12 D6 (hiz), 13 D5 (hiz), 14 D4 (hiz), 15 D3 (hiz), 16 D2 (hiz), 17 D1 (hiz), 18 D0 (hiz), 19 DGND2 (power), 20 V2- (power), 21 ADC IN(20V) (in), 22 ADC IN(10V) (in), 23 BIPO, 24 REF IN (in), 25 AGND2 (power), 26 REF OUT (out), 27 V2+ (power), 28 CE (in), 29 R/~{C} (in), 30 D M (in), 31 ~{CS} (in), 32 BYT SEL (in), 33 S/H CNTL (in), 34 S/HGND2 (in), 35 S/H OUT (out), 36 HLD CAP, 37 S/H OUT (out), 38 NC, 39 S/H IN (in), 40 CH7+ (in), 41 CH6+ (in), 42 CH5+ (in), 43 CH4+ (in), 44 CH3+ (in), 45 CH2+ (in), 46 CH1+ (in), 47 CH0+ (in), 48 MUX EN (in), 49 MUX ADD0 (in), 50 MUX ADD1 (in), 51 MUX ADD2 (in), 52 NC, 53 DGND1 (power), 54 CH0- (in), 55 CH1- (in), 56 CH2- (in), 57 CH3- (in), 58 CH4- (in), 59 CH5- (in), 60 CH6- (in), 61 CH7- (in), 62 RG, 63 G10, 64 G100, 65 MUX O+/AMP IN+ (io), 66 AMP IN- (in), 67 MUX O-, 68 AMP SEN

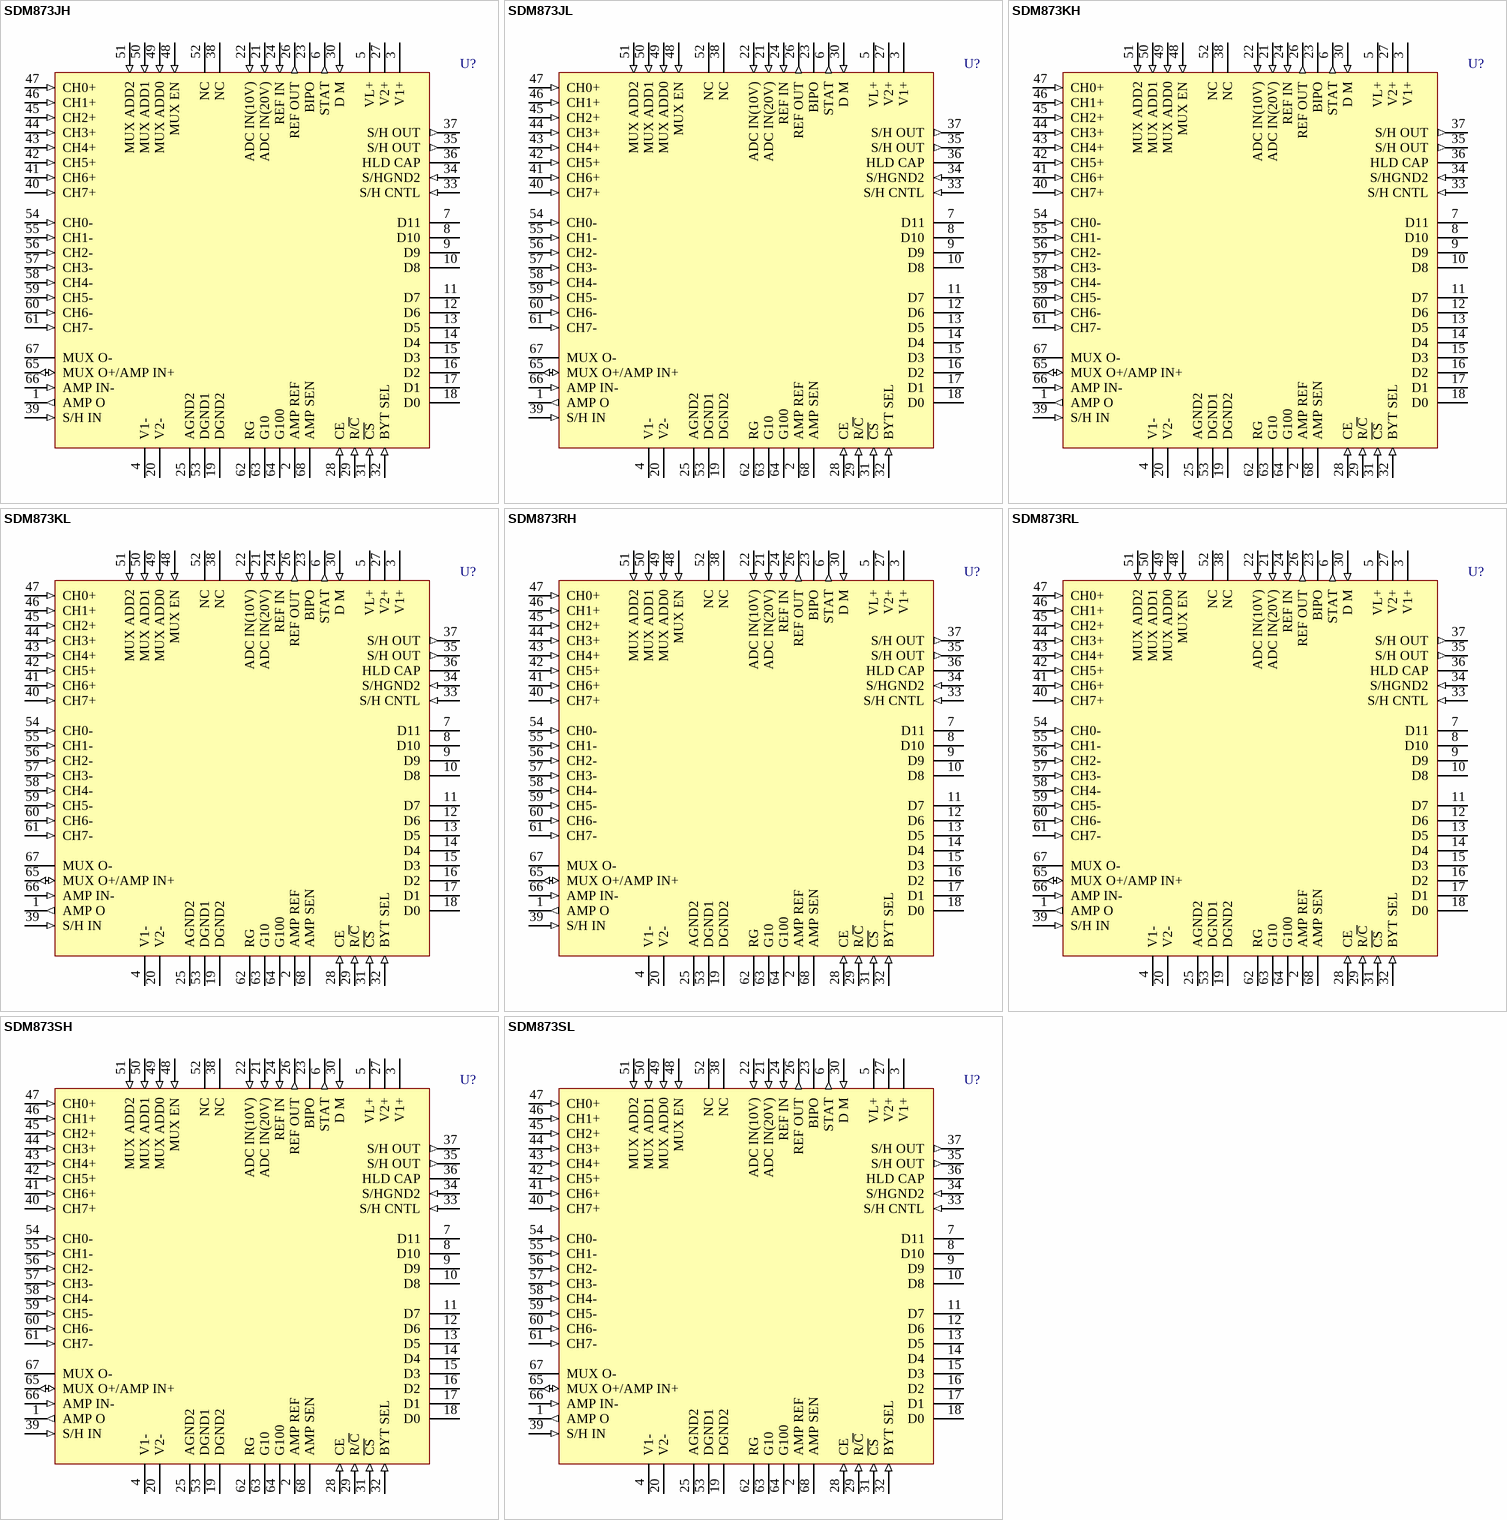
[diagram p6: symbols SDM873JH to SDM873SL]

## SDM873JH
designator U?
8 Differential Input 12-Bit Data Acquisition Systems; Note: Pin 38 is No internal Connection (NC) pin.; Published: 8-Jun-2000; LatestRevisionDate: 06-Jun-2005; LatestRevisionNote: Stylized 3D Model Added.; DatasheetVersion: 1996~1997; PackageReference: 906; Publisher: Altium Limited; PackageDescription: Leadless Chip Carrier; 68 Terminals; Body 24.3 x 24.3 mm; ComponentLink1Description: Manufacturer Link; ComponentLink1URL: http://www.ti.com/
footprint 906 (Leadless Chip Carrier; 68 Terminals; Body 24.3 x 24.3 mm)
3D model SDM873J-LCC68 (Leadless Chip Carrier; 68 Terminals; Body 24.3 x 24.3 mm)
pins: 1 AMP O (out), 2 AMP REF, 3 V1+ (power), 4 V1- (power), 5 VL+ (power), 6 STAT (out), 7 D11 (hiz), 8 D10 (hiz), 9 D9 (hiz), 10 D8 (hiz), 11 D7 (hiz), 12 D6 (hiz), 13 D5 (hiz), 14 D4 (hiz), 15 D3 (hiz), 16 D2 (hiz), 17 D1 (hiz), 18 D0 (hiz), 19 DGND2 (power), 20 V2- (power), 21 ADC IN(20V) (in), 22 ADC IN(10V) (in), 23 BIPO, 24 REF IN (in), 25 AGND2 (power), 26 REF OUT (out), 27 V2+ (power), 28 CE (in), 29 R/~{C} (in), 30 D M (in), 31 ~{CS} (in), 32 BYT SEL (in), 33 S/H CNTL (in), 34 S/HGND2 (in), 35 S/H OUT (out), 36 HLD CAP, 37 S/H OUT (out), 38 NC, 39 S/H IN (in), 40 CH7+ (in), 41 CH6+ (in), 42 CH5+ (in), 43 CH4+ (in), 44 CH3+ (in), 45 CH2+ (in), 46 CH1+ (in), 47 CH0+ (in), 48 MUX EN (in), 49 MUX ADD0 (in), 50 MUX ADD1 (in), 51 MUX ADD2 (in), 52 NC, 53 DGND1 (power), 54 CH0- (in), 55 CH1- (in), 56 CH2- (in), 57 CH3- (in), 58 CH4- (in), 59 CH5- (in), 60 CH6- (in), 61 CH7- (in), 62 RG, 63 G10, 64 G100, 65 MUX O+/AMP IN+ (io), 66 AMP IN- (in), 67 MUX O-, 68 AMP SEN

## SDM873JL
designator U?
8 Differential Input 12-Bit Data Acquisition Systems; Note: Pin 38 is No internal Connection (NC) pin.; Published: 8-Jun-2000; LatestRevisionDate: 06-Jun-2005; LatestRevisionNote: Stylized 3D Model Added.; DatasheetVersion: 1996~1997; PackageReference: ZZ907; Publisher: Altium Limited; PackageDescription: 68-Pin Pin Grid Array 2.54 mm Pitch; ComponentLink1Description: Manufacturer Link; ComponentLink1URL: http://www.ti.com/
footprint ZZ907 (PGA, 68-Leads, Body 28x28mm, Pitch 2.54mm)
3D model SDM873J-PGA68 (68-Pin Pin Grid Array 2.54 mm Pitch)
pins: 1 AMP O (out), 2 AMP REF, 3 V1+ (power), 4 V1- (power), 5 VL+ (power), 6 STAT (out), 7 D11 (hiz), 8 D10 (hiz), 9 D9 (hiz), 10 D8 (hiz), 11 D7 (hiz), 12 D6 (hiz), 13 D5 (hiz), 14 D4 (hiz), 15 D3 (hiz), 16 D2 (hiz), 17 D1 (hiz), 18 D0 (hiz), 19 DGND2 (power), 20 V2- (power), 21 ADC IN(20V) (in), 22 ADC IN(10V) (in), 23 BIPO, 24 REF IN (in), 25 AGND2 (power), 26 REF OUT (out), 27 V2+ (power), 28 CE (in), 29 R/~{C} (in), 30 D M (in), 31 ~{CS} (in), 32 BYT SEL (in), 33 S/H CNTL (in), 34 S/HGND2 (in), 35 S/H OUT (out), 36 HLD CAP, 37 S/H OUT (out), 38 NC, 39 S/H IN (in), 40 CH7+ (in), 41 CH6+ (in), 42 CH5+ (in), 43 CH4+ (in), 44 CH3+ (in), 45 CH2+ (in), 46 CH1+ (in), 47 CH0+ (in), 48 MUX EN (in), 49 MUX ADD0 (in), 50 MUX ADD1 (in), 51 MUX ADD2 (in), 52 NC, 53 DGND1 (power), 54 CH0- (in), 55 CH1- (in), 56 CH2- (in), 57 CH3- (in), 58 CH4- (in), 59 CH5- (in), 60 CH6- (in), 61 CH7- (in), 62 RG, 63 G10, 64 G100, 65 MUX O+/AMP IN+ (io), 66 AMP IN- (in), 67 MUX O-, 68 AMP SEN

## SDM873KH
designator U?
8 Differential Input 12-Bit Data Acquisition Systems; Note: Pin 38 is No internal Connection (NC) pin.; Published: 8-Jun-2000; LatestRevisionDate: 06-Jun-2005; LatestRevisionNote: Stylized 3D Model Added.; DatasheetVersion: 1996~1997; PackageReference: 906; Publisher: Altium Limited; PackageDescription: Leadless Chip Carrier; 68 Terminals; Body 24.3 x 24.3 mm; ComponentLink1Description: Manufacturer Link; ComponentLink1URL: http://www.ti.com/
footprint 906 (Leadless Chip Carrier; 68 Terminals; Body 24.3 x 24.3 mm)
3D model SDM873K-LCC68 (Leadless Chip Carrier; 68 Terminals; Body 24.3 x 24.3 mm)
pins: 1 AMP O (out), 2 AMP REF, 3 V1+ (power), 4 V1- (power), 5 VL+ (power), 6 STAT (out), 7 D11 (hiz), 8 D10 (hiz), 9 D9 (hiz), 10 D8 (hiz), 11 D7 (hiz), 12 D6 (hiz), 13 D5 (hiz), 14 D4 (hiz), 15 D3 (hiz), 16 D2 (hiz), 17 D1 (hiz), 18 D0 (hiz), 19 DGND2 (power), 20 V2- (power), 21 ADC IN(20V) (in), 22 ADC IN(10V) (in), 23 BIPO, 24 REF IN (in), 25 AGND2 (power), 26 REF OUT (out), 27 V2+ (power), 28 CE (in), 29 R/~{C} (in), 30 D M (in), 31 ~{CS} (in), 32 BYT SEL (in), 33 S/H CNTL (in), 34 S/HGND2 (in), 35 S/H OUT (out), 36 HLD CAP, 37 S/H OUT (out), 38 NC, 39 S/H IN (in), 40 CH7+ (in), 41 CH6+ (in), 42 CH5+ (in), 43 CH4+ (in), 44 CH3+ (in), 45 CH2+ (in), 46 CH1+ (in), 47 CH0+ (in), 48 MUX EN (in), 49 MUX ADD0 (in), 50 MUX ADD1 (in), 51 MUX ADD2 (in), 52 NC, 53 DGND1 (power), 54 CH0- (in), 55 CH1- (in), 56 CH2- (in), 57 CH3- (in), 58 CH4- (in), 59 CH5- (in), 60 CH6- (in), 61 CH7- (in), 62 RG, 63 G10, 64 G100, 65 MUX O+/AMP IN+ (io), 66 AMP IN- (in), 67 MUX O-, 68 AMP SEN

## SDM873KL
designator U?
8 Differential Input 12-Bit Data Acquisition Systems; Note: Pin 38 is No internal Connection (NC) pin.; Published: 8-Jun-2000; LatestRevisionDate: 06-Jun-2005; LatestRevisionNote: Stylized 3D Model Added.; DatasheetVersion: 1996~1997; PackageReference: ZZ907; Publisher: Altium Limited; PackageDescription: 68-Pin Pin Grid Array 2.54 mm Pitch; ComponentLink1Description: Manufacturer Link; ComponentLink1URL: http://www.ti.com/
footprint ZZ907 (PGA, 68-Leads, Body 28x28mm, Pitch 2.54mm)
3D model SDM873K-PGA68 (68-Pin Pin Grid Array 2.54 mm Pitch)
pins: 1 AMP O (out), 2 AMP REF, 3 V1+ (power), 4 V1- (power), 5 VL+ (power), 6 STAT (out), 7 D11 (hiz), 8 D10 (hiz), 9 D9 (hiz), 10 D8 (hiz), 11 D7 (hiz), 12 D6 (hiz), 13 D5 (hiz), 14 D4 (hiz), 15 D3 (hiz), 16 D2 (hiz), 17 D1 (hiz), 18 D0 (hiz), 19 DGND2 (power), 20 V2- (power), 21 ADC IN(20V) (in), 22 ADC IN(10V) (in), 23 BIPO, 24 REF IN (in), 25 AGND2 (power), 26 REF OUT (out), 27 V2+ (power), 28 CE (in), 29 R/~{C} (in), 30 D M (in), 31 ~{CS} (in), 32 BYT SEL (in), 33 S/H CNTL (in), 34 S/HGND2 (in), 35 S/H OUT (out), 36 HLD CAP, 37 S/H OUT (out), 38 NC, 39 S/H IN (in), 40 CH7+ (in), 41 CH6+ (in), 42 CH5+ (in), 43 CH4+ (in), 44 CH3+ (in), 45 CH2+ (in), 46 CH1+ (in), 47 CH0+ (in), 48 MUX EN (in), 49 MUX ADD0 (in), 50 MUX ADD1 (in), 51 MUX ADD2 (in), 52 NC, 53 DGND1 (power), 54 CH0- (in), 55 CH1- (in), 56 CH2- (in), 57 CH3- (in), 58 CH4- (in), 59 CH5- (in), 60 CH6- (in), 61 CH7- (in), 62 RG, 63 G10, 64 G100, 65 MUX O+/AMP IN+ (io), 66 AMP IN- (in), 67 MUX O-, 68 AMP SEN

## SDM873RH
designator U?
8 Differential Input 12-Bit Data Acquisition Systems; Note: Pin 38 is No internal Connection (NC) pin.; Published: 8-Jun-2000; LatestRevisionDate: 06-Jun-2005; LatestRevisionNote: Stylized 3D Model Added.; DatasheetVersion: 1996~1997; PackageReference: 906; Publisher: Altium Limited; PackageDescription: Leadless Chip Carrier; 68 Terminals; Body 24.3 x 24.3 mm; ComponentLink1Description: Manufacturer Link; ComponentLink1URL: http://www.ti.com/
footprint 906 (Leadless Chip Carrier; 68 Terminals; Body 24.3 x 24.3 mm)
3D model SDM873R-LCC68 (Leadless Chip Carrier; 68 Terminals; Body 24.3 x 24.3 mm)
pins: 1 AMP O (out), 2 AMP REF, 3 V1+ (power), 4 V1- (power), 5 VL+ (power), 6 STAT (out), 7 D11 (hiz), 8 D10 (hiz), 9 D9 (hiz), 10 D8 (hiz), 11 D7 (hiz), 12 D6 (hiz), 13 D5 (hiz), 14 D4 (hiz), 15 D3 (hiz), 16 D2 (hiz), 17 D1 (hiz), 18 D0 (hiz), 19 DGND2 (power), 20 V2- (power), 21 ADC IN(20V) (in), 22 ADC IN(10V) (in), 23 BIPO, 24 REF IN (in), 25 AGND2 (power), 26 REF OUT (out), 27 V2+ (power), 28 CE (in), 29 R/~{C} (in), 30 D M (in), 31 ~{CS} (in), 32 BYT SEL (in), 33 S/H CNTL (in), 34 S/HGND2 (in), 35 S/H OUT (out), 36 HLD CAP, 37 S/H OUT (out), 38 NC, 39 S/H IN (in), 40 CH7+ (in), 41 CH6+ (in), 42 CH5+ (in), 43 CH4+ (in), 44 CH3+ (in), 45 CH2+ (in), 46 CH1+ (in), 47 CH0+ (in), 48 MUX EN (in), 49 MUX ADD0 (in), 50 MUX ADD1 (in), 51 MUX ADD2 (in), 52 NC, 53 DGND1 (power), 54 CH0- (in), 55 CH1- (in), 56 CH2- (in), 57 CH3- (in), 58 CH4- (in), 59 CH5- (in), 60 CH6- (in), 61 CH7- (in), 62 RG, 63 G10, 64 G100, 65 MUX O+/AMP IN+ (io), 66 AMP IN- (in), 67 MUX O-, 68 AMP SEN

## SDM873RL
designator U?
8 Differential Input 12-Bit Data Acquisition Systems; Note: Pin 38 is No internal Connection (NC) pin.; Published: 8-Jun-2000; LatestRevisionDate: 06-Jun-2005; LatestRevisionNote: Stylized 3D Model Added.; DatasheetVersion: 1996~1997; PackageReference: ZZ907; Publisher: Altium Limited; PackageDescription: 68-Pin Pin Grid Array 2.54 mm Pitch; ComponentLink1Description: Manufacturer Link; ComponentLink1URL: http://www.ti.com/
footprint ZZ907 (PGA, 68-Leads, Body 28x28mm, Pitch 2.54mm)
3D model SDM873R-PGA68 (68-Pin Pin Grid Array 2.54 mm Pitch)
pins: 1 AMP O (out), 2 AMP REF, 3 V1+ (power), 4 V1- (power), 5 VL+ (power), 6 STAT (out), 7 D11 (hiz), 8 D10 (hiz), 9 D9 (hiz), 10 D8 (hiz), 11 D7 (hiz), 12 D6 (hiz), 13 D5 (hiz), 14 D4 (hiz), 15 D3 (hiz), 16 D2 (hiz), 17 D1 (hiz), 18 D0 (hiz), 19 DGND2 (power), 20 V2- (power), 21 ADC IN(20V) (in), 22 ADC IN(10V) (in), 23 BIPO, 24 REF IN (in), 25 AGND2 (power), 26 REF OUT (out), 27 V2+ (power), 28 CE (in), 29 R/~{C} (in), 30 D M (in), 31 ~{CS} (in), 32 BYT SEL (in), 33 S/H CNTL (in), 34 S/HGND2 (in), 35 S/H OUT (out), 36 HLD CAP, 37 S/H OUT (out), 38 NC, 39 S/H IN (in), 40 CH7+ (in), 41 CH6+ (in), 42 CH5+ (in), 43 CH4+ (in), 44 CH3+ (in), 45 CH2+ (in), 46 CH1+ (in), 47 CH0+ (in), 48 MUX EN (in), 49 MUX ADD0 (in), 50 MUX ADD1 (in), 51 MUX ADD2 (in), 52 NC, 53 DGND1 (power), 54 CH0- (in), 55 CH1- (in), 56 CH2- (in), 57 CH3- (in), 58 CH4- (in), 59 CH5- (in), 60 CH6- (in), 61 CH7- (in), 62 RG, 63 G10, 64 G100, 65 MUX O+/AMP IN+ (io), 66 AMP IN- (in), 67 MUX O-, 68 AMP SEN

## SDM873SH
designator U?
8 Differential Input 12-Bit Data Acquisition Systems; Note: Pin 38 is No internal Connection (NC) pin.; Published: 8-Jun-2000; LatestRevisionDate: 06-Jun-2005; LatestRevisionNote: Stylized 3D Model Added.; DatasheetVersion: 1996~1997; PackageReference: 906; Publisher: Altium Limited; PackageDescription: Leadless Chip Carrier; 68 Terminals; Body 24.3 x 24.3 mm; ComponentLink1Description: Manufacturer Link; ComponentLink1URL: http://www.ti.com/
footprint 906 (Leadless Chip Carrier; 68 Terminals; Body 24.3 x 24.3 mm)
3D model SDM873S-LCC68 (Leadless Chip Carrier; 68 Terminals; Body 24.3 x 24.3 mm)
pins: 1 AMP O (out), 2 AMP REF, 3 V1+ (power), 4 V1- (power), 5 VL+ (power), 6 STAT (out), 7 D11 (hiz), 8 D10 (hiz), 9 D9 (hiz), 10 D8 (hiz), 11 D7 (hiz), 12 D6 (hiz), 13 D5 (hiz), 14 D4 (hiz), 15 D3 (hiz), 16 D2 (hiz), 17 D1 (hiz), 18 D0 (hiz), 19 DGND2 (power), 20 V2- (power), 21 ADC IN(20V) (in), 22 ADC IN(10V) (in), 23 BIPO, 24 REF IN (in), 25 AGND2 (power), 26 REF OUT (out), 27 V2+ (power), 28 CE (in), 29 R/~{C} (in), 30 D M (in), 31 ~{CS} (in), 32 BYT SEL (in), 33 S/H CNTL (in), 34 S/HGND2 (in), 35 S/H OUT (out), 36 HLD CAP, 37 S/H OUT (out), 38 NC, 39 S/H IN (in), 40 CH7+ (in), 41 CH6+ (in), 42 CH5+ (in), 43 CH4+ (in), 44 CH3+ (in), 45 CH2+ (in), 46 CH1+ (in), 47 CH0+ (in), 48 MUX EN (in), 49 MUX ADD0 (in), 50 MUX ADD1 (in), 51 MUX ADD2 (in), 52 NC, 53 DGND1 (power), 54 CH0- (in), 55 CH1- (in), 56 CH2- (in), 57 CH3- (in), 58 CH4- (in), 59 CH5- (in), 60 CH6- (in), 61 CH7- (in), 62 RG, 63 G10, 64 G100, 65 MUX O+/AMP IN+ (io), 66 AMP IN- (in), 67 MUX O-, 68 AMP SEN

## SDM873SL
designator U?
8 Differential Input 12-Bit Data Acquisition Systems; Note: Pin 38 is No internal Connection (NC) pin.; Published: 8-Jun-2000; LatestRevisionDate: 06-Jun-2005; LatestRevisionNote: Stylized 3D Model Added.; DatasheetVersion: 1996~1997; PackageReference: ZZ907; Publisher: Altium Limited; PackageDescription: 68-Pin Pin Grid Array 2.54 mm Pitch; ComponentLink1Description: Manufacturer Link; ComponentLink1URL: http://www.ti.com/
footprint ZZ907 (PGA, 68-Leads, Body 28x28mm, Pitch 2.54mm)
3D model SDM873S-PGA68 (68-Pin Pin Grid Array 2.54 mm Pitch)
pins: 1 AMP O (out), 2 AMP REF, 3 V1+ (power), 4 V1- (power), 5 VL+ (power), 6 STAT (out), 7 D11 (hiz), 8 D10 (hiz), 9 D9 (hiz), 10 D8 (hiz), 11 D7 (hiz), 12 D6 (hiz), 13 D5 (hiz), 14 D4 (hiz), 15 D3 (hiz), 16 D2 (hiz), 17 D1 (hiz), 18 D0 (hiz), 19 DGND2 (power), 20 V2- (power), 21 ADC IN(20V) (in), 22 ADC IN(10V) (in), 23 BIPO, 24 REF IN (in), 25 AGND2 (power), 26 REF OUT (out), 27 V2+ (power), 28 CE (in), 29 R/~{C} (in), 30 D M (in), 31 ~{CS} (in), 32 BYT SEL (in), 33 S/H CNTL (in), 34 S/HGND2 (in), 35 S/H OUT (out), 36 HLD CAP, 37 S/H OUT (out), 38 NC, 39 S/H IN (in), 40 CH7+ (in), 41 CH6+ (in), 42 CH5+ (in), 43 CH4+ (in), 44 CH3+ (in), 45 CH2+ (in), 46 CH1+ (in), 47 CH0+ (in), 48 MUX EN (in), 49 MUX ADD0 (in), 50 MUX ADD1 (in), 51 MUX ADD2 (in), 52 NC, 53 DGND1 (power), 54 CH0- (in), 55 CH1- (in), 56 CH2- (in), 57 CH3- (in), 58 CH4- (in), 59 CH5- (in), 60 CH6- (in), 61 CH7- (in), 62 RG, 63 G10, 64 G100, 65 MUX O+/AMP IN+ (io), 66 AMP IN- (in), 67 MUX O-, 68 AMP SEN